# Altium footprint library 691 214 100 0xx.PcbLib: 2 footprints
Each footprint in its own frame and in the unit in brackets; x right, y up, seen from the top. Pads: shape width x height; smd on the part's side, far side on the other; paste and mask are expansions set on the pad; w line width, h text height; cw(c..) or ccw(c..) is an arc to the next point about the centre after c.
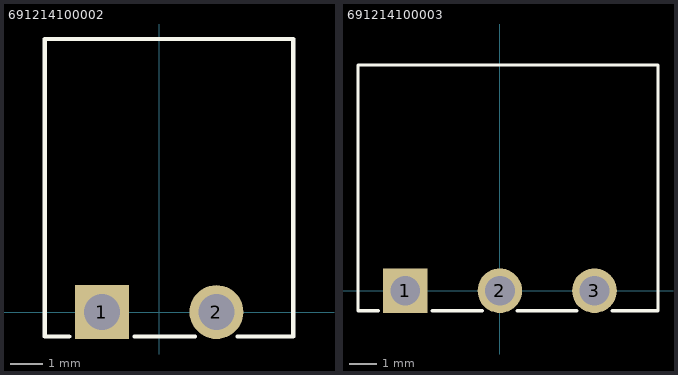
[diagram p0: the footprints below, top view; thin cyan lines are the x and y axes]

## 691214100002 [mm] "Serie 2141 - 3.50 mm _ 2 pins"
height 7.3
pads (2):
  rect 1.65x1.65 hole 1.1: 1(-1.75,0)
  round 1.65 hole 1.1: 2(1.75,0)
Top Overlay:
  lines w0.127: -2.75,-0.75 -3.5,-0.75 -3.5,8.35 4.1,8.35 4.1,-0.75 2.4,-0.75 ; -0.75,-0.75 1.1,-0.75
3D body: height 7.4, standoff -3.4, extent -3.5,-0.75 4.1,8.35

## 691214100003 [mm] "Serie 2141 - 3.50 mm _ 3 pins"
height 7.3
pads (3):
  rect 1.65x1.65 hole 1.1: 1(-3.5,0)
  round 1.65 hole 1.1: 2(0,0) 3(3.5,0)
Top Overlay:
  lines w0.127: -4.5,-0.75 -5.25,-0.75 -5.25,8.35 5.85,8.35 5.85,-0.75 4.15,-0.75 ; -2.5,-0.75 -0.65,-0.75 ; 0.65,-0.75 2.85,-0.75
3D body: height 7.4, standoff -3.4, extent -5.25,-0.75 5.85,8.35